# Altium integrated library SINGLE_BIPOLAR_TRANSISTORS.IntLib: 1 symbol
Pins are listed as number, name and electrical type; pins without a type are passive.

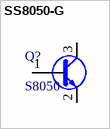
[diagram p0: symbol SS8050-G]

## SS8050-G
designator Q?, comment S8050
Trans Gp Bjt NPN 25V 1.5A 300MW 3-PIN SOT-23 T/r; Manufacturer: Comchip; Manufacturer Part Number: SS8050-G; Transition Frequency: 100MHz; Collector-emitter Voltage-Max: 400mV; Supplier: Digi-Key; Supplier Part Number: 641-1790-1-ND; RoHS: Yes; Category: Transistors; Stock: 359426; Pricing: 1=0.29, 10=0.236, 100=0.1254, 500=0.0825, 1000=0.0561 (USD); Mounting Technology: Surface Mount; Case/Package: TO-236-3; Packaging: Cut Tape; Series: -; Max Power Dissipation: 300mW; Max Collector Current: 1.5A; Collector Emitter Breakdown Voltage: 25V; Max Breakdown Voltage: 25V; RoHS Compliant: Yes; ComponentLink1URL: http://www.comchiptech.com/admin/files/product/SS8050-G RevA181526.pdf?src-supplier=Digi-Key; ComponentLink1Description: http://www.comchiptech.com/admin/files/product/SS8050-G RevA181526.pdf?src-supplier=Digi-Key; ComponentLink2URL: http://www.comchiptech.com/cms/UserFiles/SS8050-G%20RevA181526.pdf?src-supplier=Digi-Key; ComponentLink2Description: http://www.comchiptech.com/cms/UserFiles/SS8050-G%20RevA181526.pdf?src-supplier=Digi-Key
footprint FP-SS8050-G-IPC_A
footprint FP-SS8050-G-IPC_B
footprint FP-SS8050-G-IPC_C
pins: 1 BASE, 2 EMITTER, 3 COLLECTOR